# Altium integrated library CERAMIC_CAPACITORS.IntLib: 5 symbols
Pins are listed as number, name and electrical type; pins without a type are passive.

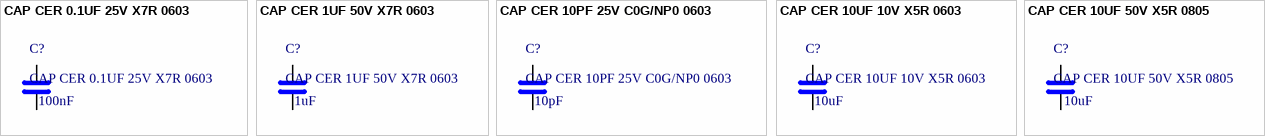
[diagram p0: symbols CAP CER 0.1UF 25V X7R 0603 to CAP CER 10UF 50V X5R 0805]

## CAP CER 0.1UF 25V X7R 0603
designator C?  value 100nF
Multilayer Ceramic Capacitor, 0.1 uF, 25 V, ± 10%, X7R, 0603 [1608 Metric]; Manufacturer: KEMET; Manufacturer Part Number: C0603C104K3RACTU; Dissipation Factor: 3.5%; Supplier: Digi-Key; Supplier Part Number: 399-C0603C104K3RAC7867CT-ND; RoHS: Yes; Category: Ceramic Capacitors; Stock: 1386347; Pricing: 1=0.1, 10=0.072, 50=0.0394, 100=0.0322, 500=0.02298, 1000=0.01805 (USD); Mounting Technology: Surface Mount,PCB; Case/Package: 0603; Pins: 2; Case Code (Metric): 1608; Case Code (Imperial): 0603; Dielectric Material: Ceramic; Min Operating Temperature: -55°C; Max Operating Temperature: 125°C; Series: C; Package Quantity: 1; Tolerance: 10%; Packaging: Tape and Reel; Dielectric: X7R; Voltage Rating: 25V; Voltage Rating (DC): 25V; Termination: SMD/SMT; Voltage: 25V; Construction: Flat; Length: 1.6mm; Width: 0.031inch; Height: 0.8mm; Thickness: 0.034inch; Lead Pitch: 0.7mm; Depth: 0.8mm; Radiation Hardening: No; RoHS Compliant: Yes; Reach SVHC Compliant: No; ComponentLink1URL: https://datasheet.ciiva.com/28645/1851736-28645628.pdf?src-supplier=Element14; ComponentLink1Description: https://datasheet.ciiva.com/28645/1851736-28645628.pdf?src-supplier=Element14; ComponentLink2URL: https://datasheet.ciiva.com/7258/1828800-7258395.pdf?src-supplier=Newark; ComponentLink2Description: https://datasheet.ciiva.com/7258/1828800-7258395.pdf?src-supplier=Newark; ComponentLink3URL: https://datasheet.ciiva.com/18219/getdatasheetpartid-72529-18219211.pdf?src-supplier=Verical; ComponentLink3Description: https://datasheet.ciiva.com/18219/getdatasheetpartid-72529-18219211.pdf?src-supplier=Verical
footprint C0603-IPC-A
footprint C0603-IPC-B
footprint C0603-IPC-C
pins: 1, 2

## CAP CER 1UF 50V X7R 0603
designator C?  value 1uF
Multilayer Ceramic Capacitors 0603 50V X7R 105 10% TOL; Manufacturer: Kyocera AVX; Manufacturer Part Number: 06035C105KAT2A; Supplier: Digi-Key; Supplier Part Number: 478-10073-1-ND; RoHS: Yes; Category: Ceramic Capacitors; Stock: 732555; Pricing: 1=0.52, 10=0.364, 50=0.2756, 100=0.24, 500=0.17776, 1000=0.1511 (USD); Mounting Technology: Surface Mount; Case/Package: 0603; Min Operating Temperature: -55°C; Max Operating Temperature: 125°C; Tolerance: 10%; Dielectric: X7R; Voltage Rating (DC): 50V; Series: -; Packaging: Cut Tape; Voltage Rating: 50V; RoHS Compliant: Yes; ComponentLink1URL: http://catalogs.avx.com/SurfaceMount.pdf?src-supplier=Digi-Key; ComponentLink1Description: http://catalogs.avx.com/SurfaceMount.pdf?src-supplier=Digi-Key; ComponentLink2URL: http://datasheets.avx.com/X7RDielectric.pdf?src-supplier=Digi-Key; ComponentLink2Description: http://datasheets.avx.com/X7RDielectric.pdf?src-supplier=Digi-Key
footprint C0603-IPC-A
footprint C0603-IPC-B
footprint C0603-IPC-C
pins: 1, 2

## CAP CER 10PF 25V C0G/NP0 0603
designator C?  value 10pF
Cap Ceramic 10pF 25V C0G 10% SMD 0603 125°C Paper T/R; Manufacturer: KEMET; Manufacturer Part Number: C0603C100K3GACTU; Dissipation Factor: 0.1%; Supplier: Digi-Key; Supplier Part Number: 399-C0603C100K3GAC7867CT-ND; RoHS: Yes; Category: Ceramic Capacitors; Stock: 72094; Pricing: 1=0.1, 10=0.071, 50=0.0402, 100=0.0334, 500=0.02342, 1000=0.01938 (USD); Mounting Technology: Surface Mount; Case/Package: 0603; Case Code (Metric): 1608; Case Code (Imperial): 0603; Dielectric Material: Ceramic; Min Operating Temperature: -55°C; Max Operating Temperature: 125°C; Tolerance: 10%; Dielectric: C0G; Package Quantity: 4000; Voltage Rating: 25V; Packaging: Tape and Reel; Voltage Rating (DC): 25V; Termination: SMD/SMT; Series: C; Construction: Flat; Length: 1.6mm; Width: 0.031inch; Height: 0.8mm; Thickness: 0.034inch; Lead Pitch: 0.7mm; Depth: 0.8mm; Radiation Hardening: No; Reach SVHC Compliant: No; Lead Free: Lead Free; ComponentLink1URL: https://datasheet.ciiva.com/18192/getdatasheetpartid-179374-18192618.pdf?src-supplier=Verical; ComponentLink1Description: https://datasheet.ciiva.com/18192/getdatasheetpartid-179374-18192618.pdf?src-supplier=Verical
footprint C0603-IPC-A
footprint C0603-IPC-B
footprint C0603-IPC-C
pins: 1, 2

## CAP CER 10UF 10V X5R 0603
designator C?  value 10uF
Cap, 10UF, 10V, Mlcc, 0603;; Manufacturer: KEMET; Manufacturer Part Number: C0603C106M8PAC7411; Supplier: Digi-Key; Supplier Part Number: 399-C0603C106M8PAC7411CT-ND; RoHS: Yes; Category: Ceramic Capacitors; Stock: 16273; Pricing: 1=0.46, 10=0.326, 50=0.2468, 100=0.2149, 500=0.15918, 1000=0.1353, 2500=0.12734, 5000=0.11938 (USD); RoHS Compliant: Yes
footprint C0603-IPC-A
footprint C0603-IPC-B
footprint C0603-IPC-C
pins: 1, 2

## CAP CER 10UF 50V X5R 0805
designator C?  value 10uF
Capacitor Ceramic Multilayer; Manufacturer: Murata; Manufacturer Part Number: GRM21BR61H106KE43L; Tolerance: 10%; Supplier: Digi-Key; Supplier Part Number: 490-18663-1-ND; RoHS: Yes; Category: Ceramic Capacitors; Stock: 177372; Pricing: 1=0.34, 10=0.231, 50=0.1544, 100=0.1312, 500=0.0926, 1000=0.08102 (USD); Mounting Technology: Surface Mount; Case/Package: 0805; Min Operating Temperature: -55°C; Max Operating Temperature: 85°C; Voltage Rating (DC): 50V; Dielectric: X5R; Series: GRM; Voltage Rating: 50V; Length: 2mm; Width: 1.25mm; Thickness: 1.25mm; ComponentLink1URL: https://search.murata.co.jp/Ceramy/image/img/A01X/G101/ENG/GRM21BR61H106KE43-01A.pdf?src-supplier=Digi-Key; ComponentLink1Description: https://search.murata.co.jp/Ceramy/image/img/A01X/G101/ENG/GRM21BR61H106KE43-01A.pdf?src-supplier=Digi-Key
footprint C0805-IPC-A
footprint C0805-IPC-B
footprint C0805-IPC-C
pins: 1, 2